# EAGLE library part QUAD (library Library)
Standard Quad Operational AmplifierCommon devices include the TL074 and LM324. Alternate package included for devices like the LM339.
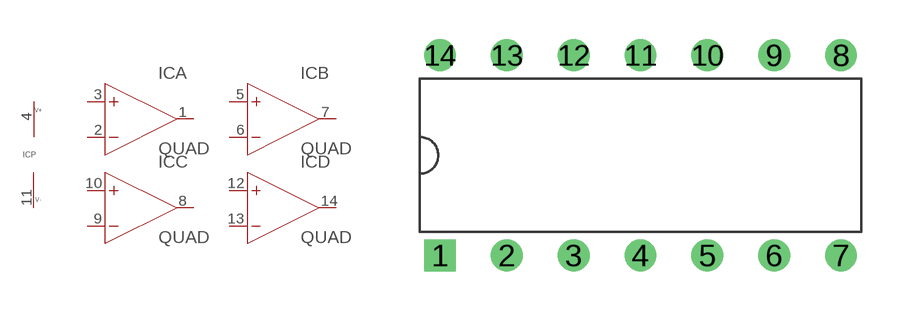
[diagram p2: symbol with the pads of DIL14; footprint DIL14]

Designator prefix IC; gates A=OP-AMP B=OP-AMP C=OP-AMP D=OP-AMP P=POWER

## QUADDIL  [DIL14]
1  A:OUT  out
2  A:IN-  in
3  A:IN+  in
4  P:VCC+  pwr
5  B:IN+  in
6  B:IN-  in
7  B:OUT  out
8  C:OUT  out
9  C:IN-  in
10  C:IN+  in
11  P:VCC-  pwr
12  D:IN+  in
13  D:IN-  in
14  D:OUT  out

## QUADALT  [DIL14]
1  B:OUT  out
2  A:OUT  out
3  P:VCC+  pwr
4  A:IN-  in
5  A:IN+  in
6  B:IN-  in
7  B:IN+  in
8  C:IN-  in
9  C:IN+  in
10  D:IN-  in
11  D:IN+  in
12  P:VCC-  pwr
13  D:OUT  out
14  C:OUT  out

## Footprint DIL14 (pad centres in mm)
Dual In Line 14pin Package
drill 0.7 square: 1 -7.62,-3.81
drill 0.7: 2 -5.08,-3.81; 3 -2.54,-3.81; 4 0,-3.81; 5 2.54,-3.81; 6 5.08,-3.81; 7 7.62,-3.81; 8 7.62,3.81; 9 5.08,3.81; 10 2.54,3.81; 11 0,3.81; 12 -2.54,3.81; 13 -5.08,3.81; 14 -7.62,3.81